# Altium footprint library MLX90614ESFDCH000TU.PcbLib: 1 footprints
Each footprint in its own frame and in the unit in brackets; x right, y up, seen from the top. Pads: shape width x height; smd on the part's side, far side on the other; paste and mask are expansions set on the pad; w line width, h text height; cw(c..) or ccw(c..) is an arc to the next point about the centre after c.
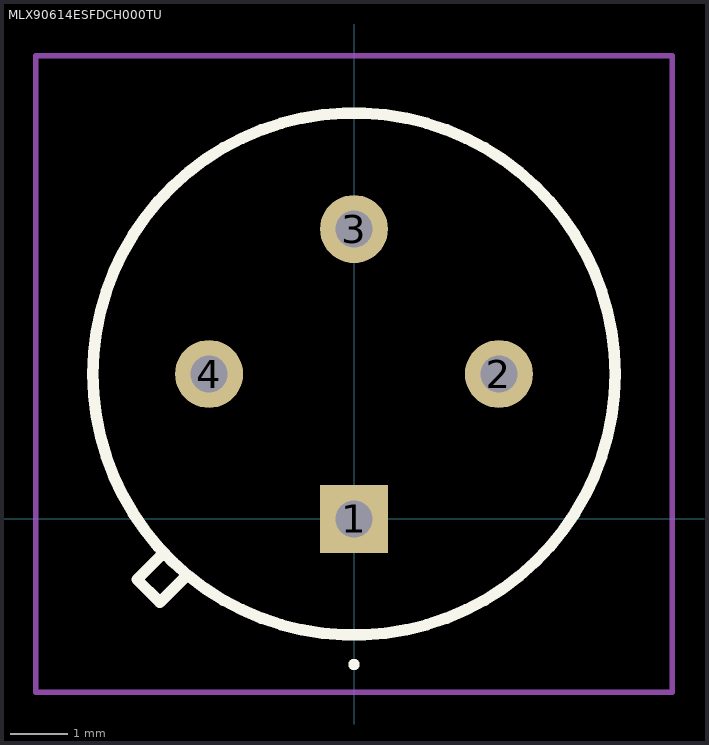
[diagram p0: the footprint, top view; thin cyan lines are the x and y axes]

## MLX90614ESFDCH000TU [mm]
pads (4):
  rect 1.192x1.192 hole 0.65: 1(0,0)
  round 1.192 hole 0.65: 2(2.54,2.54) 3(0,5.08) 4(-2.54,2.54)
Top Overlay:
  lines w0.1: 0,-2.6 0,-2.6 ; 0,-2.6 ccw(c0,-2.55) 0,-2.5 ; 0,-2.6 cw(c0,-2.55) 0,-2.5 ; 0,-2.5 0,-2.5
  lines w0.2: -3.4,-0.66 -3.8,-1.06 -3.4,-1.46 -3,-1.06 ; -4.575,2.54 -4.575,2.54 ; -4.575,2.54 ccw(c0,2.54) 4.575,2.54 ; -4.575,2.54 cw(c0,2.54) 4.575,2.54 ; 4.575,2.54 4.575,2.54
Mechanical 15:
  lines w0.1: -3.4,-0.66 -3.8,-1.06 -3.4,-1.46 -3,-1.06 ; -4.575,2.54 -4.575,2.54 ; -4.575,2.54 ccw(c0,2.54) 4.575,2.54 ; -4.575,2.54 cw(c0,2.54) 4.575,2.54 ; 4.575,2.54 4.575,2.54
Mechanical 20:
  lines w0.1: -5.575,-3.035 5.575,-3.035 5.575,8.115 -5.575,8.115 -5.575,-3.035